# Altium schematic symbol library TPS65987D.SchLib: 1 symbol
Pins are listed as number, name and electrical type; pins without a type are passive.

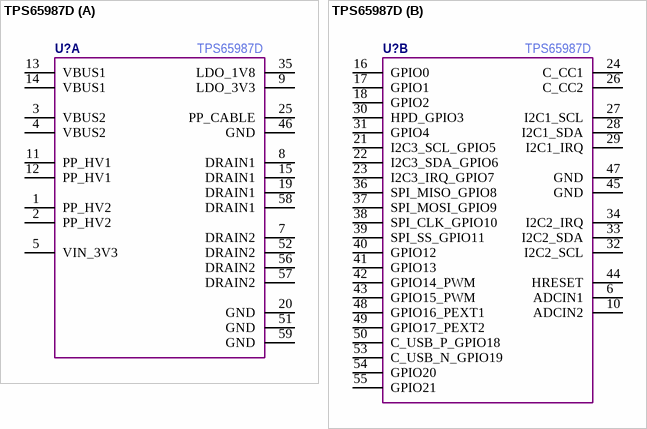
[diagram p0: symbol TPS65987D]

## TPS65987D
designator U?  Manufacturer Part Number: TPS65987D  (hidden comment: *)
part A pins: 1 PP_HV2, 2 PP_HV2, 3 VBUS2, 4 VBUS2, 5 VIN_3V3, 7 DRAIN2, 8 DRAIN1, 9 LDO_3V3, 11 PP_HV1, 12 PP_HV1, 13 VBUS1, 14 VBUS1, 15 DRAIN1, 19 DRAIN1, 20 GND, 25 PP_CABLE, 35 LDO_1V8, 46 GND, 51 GND, 52 DRAIN2, 56 DRAIN2, 57 DRAIN2, 58 DRAIN1, 59 GND
part B pins: 6 ADCIN1, 10 ADCIN2, 16 GPIO0, 17 GPIO1, 18 GPIO2, 21 I2C3_SCL_GPIO5, 22 I2C3_SDA_GPIO6, 23 I2C3_IRQ_GPIO7, 24 C_CC1, 26 C_CC2, 27 I2C1_SCL, 28 I2C1_SDA, 29 I2C1_IRQ, 30 HPD_GPIO3, 31 GPIO4, 32 I2C2_SCL, 33 I2C2_SDA, 34 I2C2_IRQ, 36 SPI_MISO_GPIO8, 37 SPI_MOSI_GPIO9, 38 SPI_CLK_GPIO10, 39 SPI_SS_GPIO11, 40 GPIO12, 41 GPIO13, 42 GPIO14_PWM, 43 GPIO15_PWM, 44 HRESET, 45 GND, 47 GND, 48 GPIO16_PEXT1, 49 GPIO17_PEXT2, 50 C_USB_P_GPIO18, 53 C_USB_N_GPIO19, 54 GPIO20, 55 GPIO21